# Altium schematic symbol library Gas_Sensors.SchLib: 4 symbols
Pins are listed as number, name and electrical type; pins without a type are passive.

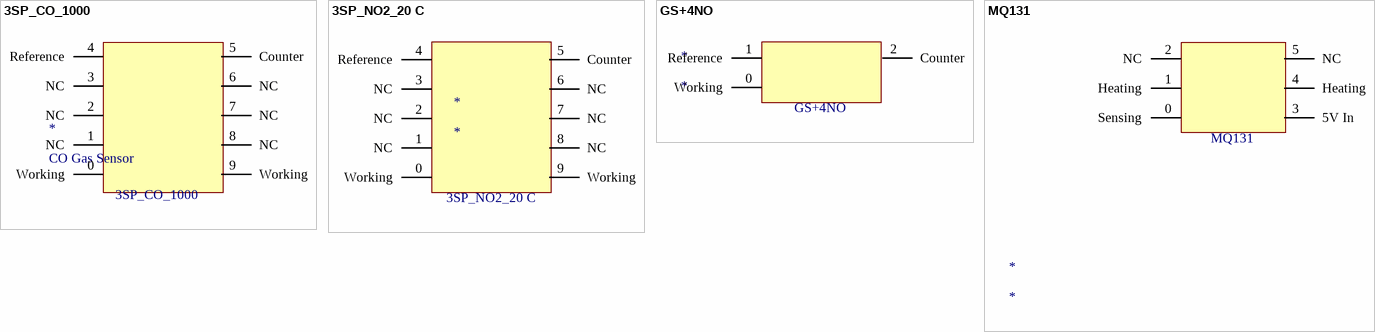
[diagram p0: symbols 3SP_CO_1000 to MQ131]

## 3SP_CO_1000
designator *, comment CO Gas Sensor
3SP_CO_1000 Package 110-109
pins: 0 Working, 1 NC, 2 NC, 3 NC, 4 Reference, 5 Counter, 6 NC, 7 NC, 8 NC, 9 Working

## 3SP_NO2_20 C
designator *
3SP_NO2_5F C Package 110-508
pins: 0 Working, 1 NC, 2 NC, 3 NC, 4 Reference, 5 Counter, 6 NC, 7 NC, 8 NC, 9 Working

## GS+4NO
designator *
pins: 0 Working, 1 Reference, 2 Counter

## MQ131
designator *
pins: 0 Sensing, 1 Heating, 2 NC, 3 5V In, 4 Heating, 5 NC